# Altium footprint library con3.PcbLib: 1 footprints
Each footprint in its own frame and in the unit in brackets; x right, y up, seen from the top. Pads: shape width x height; smd on the part's side, far side on the other; paste and mask are expansions set on the pad; w line width, h text height; cw(c..) or ccw(c..) is an arc to the next point about the centre after c.
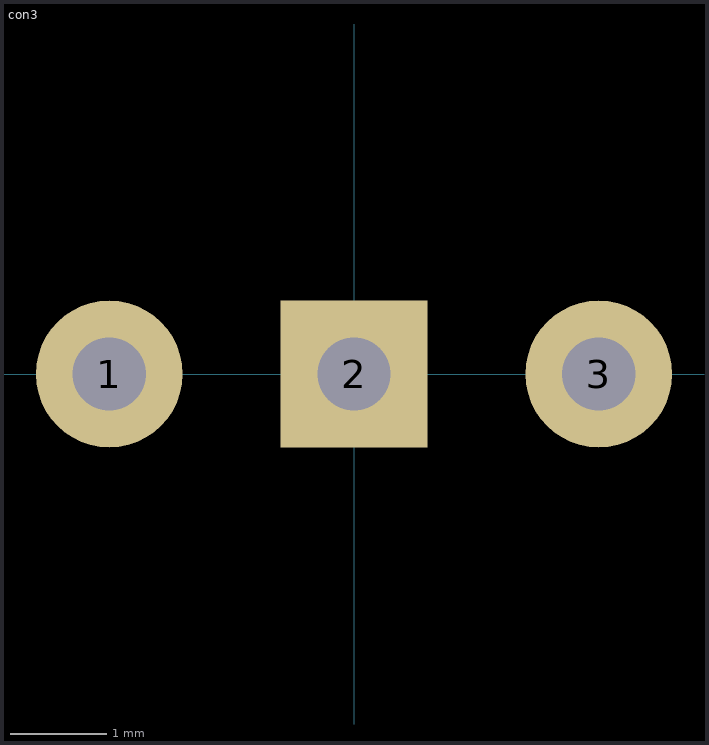
[diagram p0: the footprint, top view; thin cyan lines are the x and y axes]

## con3 [mil]
pads (3):
  round 60 hole 30: 1(-100,0) 3(100,0)
  rect 60x60 hole 30 square: 2(0,0)